# Altium schematic symbol library CSD25401Q3.Schlib: 1 symbol
Pins are listed as number, name and electrical type; pins without a type are passive.

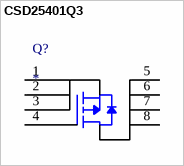
[diagram p0: symbol CSD25401Q3]

## CSD25401Q3
designator Q?
pins: 1 S, 2 S, 3 S, 4 G, 5 D, 6 D, 7 D, 8 D
2 alternate drawings of the same symbol